# EAGLE library part XC3S400-FT256 (library xess)
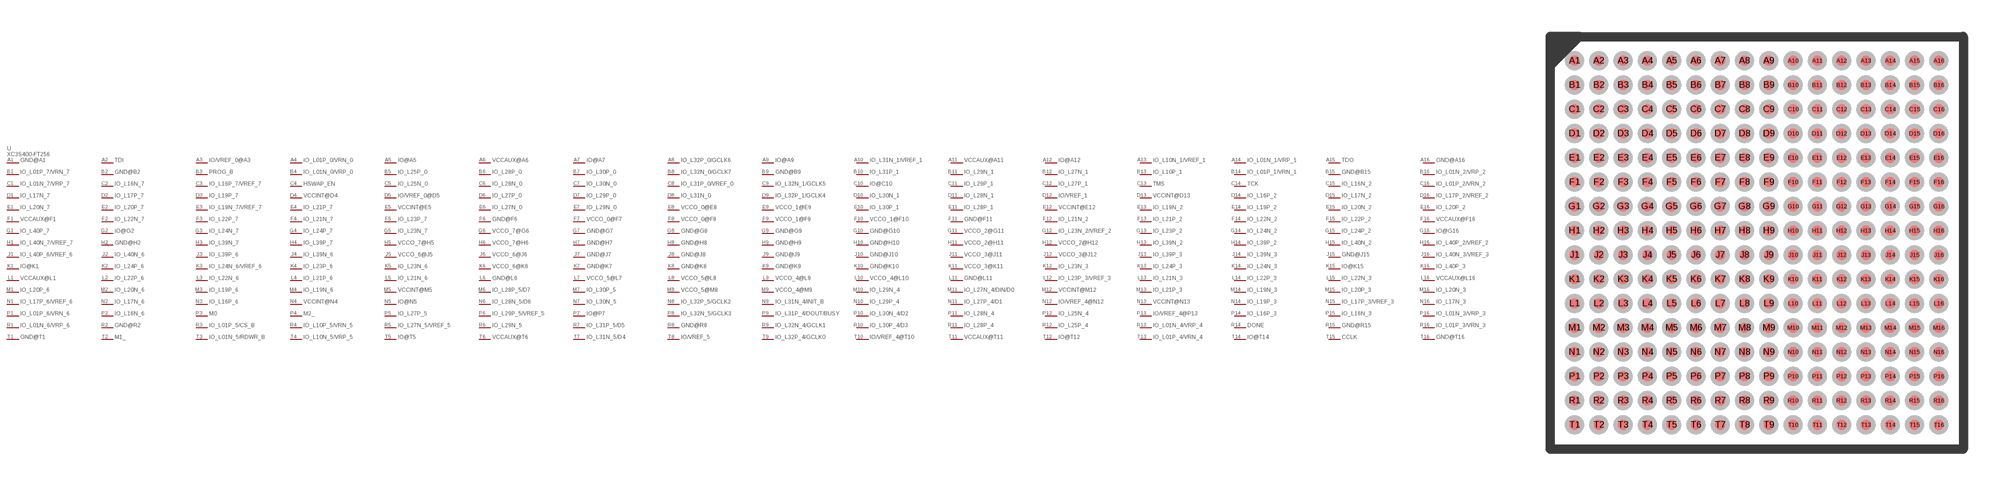
[diagram p102: symbol with the pads of XC3S400-FT256; footprint XC3S400-FT256]

Designator prefix U; gates PART_VALUE=PART_VALUE-XC3S400-FT256 GND@A1=P-XC3S400-FT256 TDI=P-XC3S400-FT256 IO/VREF_0@A3=P-XC3S400-FT256 IO_L01P_0/VRN_0=P-XC3S400-FT256 IO@A5=P-XC3S400-FT256 VCCAUX@A6=P-XC3S400-FT256 IO@A7=P-XC3S400-FT256 IO_L32P_0/GCLK6=P-XC3S400-FT256 IO@A9=P-XC3S400-FT256 IO_L31N_1/VREF_1=P-XC3S400-FT256 VCCAUX@A11=P-XC3S400-FT256 IO@A12=P-XC3S400-FT256 IO_L10N_1/VREF_1=P-XC3S400-FT256 IO_L01N_1/VRP_1=P-XC3S400-FT256 TDO=P-XC3S400-FT256 GND@A16=P-XC3S400-FT256 IO_L01P_7/VRN_7=P-XC3S400-FT256 GND@B2=P-XC3S400-FT256 PROG_B=P-XC3S400-FT256 IO_L01N_0/VRP_0=P-XC3S400-FT256 IO_L25P_0=P-XC3S400-FT256 IO_L28P_0=P-XC3S400-FT256 IO_L30P_0=P-XC3S400-FT256 IO_L32N_0/GCLK7=P-XC3S400-FT256 GND@B9=P-XC3S400-FT256 IO_L31P_1=P-XC3S400-FT256 IO_L29N_1=P-XC3S400-FT256 IO_L27N_1=P-XC3S400-FT256 IO_L10P_1=P-XC3S400-FT256 IO_L01P_1/VRN_1=P-XC3S400-FT256 GND@B15=P-XC3S400-FT256 IO_L01N_2/VRP_2=P-XC3S400-FT256 IO_L01N_7/VRP_7=P-XC3S400-FT256 IO_L16N_7=P-XC3S400-FT256 IO_L16P_7/VREF_7=P-XC3S400-FT256 HSWAP_EN=P-XC3S400-FT256 IO_L25N_0=P-XC3S400-FT256 IO_L28N_0=P-XC3S400-FT256 IO_L30N_0=P-XC3S400-FT256 IO_L31P_0/VREF_0=P-XC3S400-FT256 IO_L32N_1/GCLK5=P-XC3S400-FT256 IO@C10=P-XC3S400-FT256 IO_L29P_1=P-XC3S400-FT256 IO_L27P_1=P-XC3S400-FT256 TMS=P-XC3S400-FT256 TCK=P-XC3S400-FT256 IO_L16N_2=P-XC3S400-FT256 IO_L01P_2/VRN_2=P-XC3S400-FT256 IO_L17N_7=P-XC3S400-FT256 IO_L17P_7=P-XC3S400-FT256 IO_L19P_7=P-XC3S400-FT256 VCCINT@D4=P-XC3S400-FT256 IO/VREF_0@D5=P-XC3S400-FT256 IO_L27P_0=P-XC3S400-FT256 IO_L29P_0=P-XC3S400-FT256 IO_L31N_0=P-XC3S400-FT256 IO_L32P_1/GCLK4=P-XC3S400-FT256 IO_L30N_1=P-XC3S400-FT256 IO_L28N_1=P-XC3S400-FT256 IO/VREF_1=P-XC3S400-FT256 VCCINT@D13=P-XC3S400-FT256 IO_L16P_2=P-XC3S400-FT256 IO_L17N_2=P-XC3S400-FT256 IO_L17P_2/VREF_2=P-XC3S400-FT256 IO_L20N_7=P-XC3S400-FT256 IO_L20P_7=P-XC3S400-FT256 IO_L19N_7/VREF_7=P-XC3S400-FT256 IO_L21P_7=P-XC3S400-FT256 VCCINT@E5=P-XC3S400-FT256 IO_L27N_0=P-XC3S400-FT256 IO_L29N_0=P-XC3S400-FT256 VCCO_0@E8=P-XC3S400-FT256 VCCO_1@E9=P-XC3S400-FT256 IO_L30P_1=P-XC3S400-FT256 IO_L28P_1=P-XC3S400-FT256 VCCINT@E12=P-XC3S400-FT256 IO_L19N_2=P-XC3S400-FT256 IO_L19P_2=P-XC3S400-FT256 IO_L20N_2=P-XC3S400-FT256 IO_L20P_2=P-XC3S400-FT256 VCCAUX@F1=P-XC3S400-FT256 IO_L22N_7=P-XC3S400-FT256 IO_L22P_7=P-XC3S400-FT256 IO_L21N_7=P-XC3S400-FT256 IO_L23P_7=P-XC3S400-FT256 GND@F6=P-XC3S400-FT256 VCCO_0@F7=P-XC3S400-FT256 VCCO_0@F8=P-XC3S400-FT256 VCCO_1@F9=P-XC3S400-FT256 VCCO_1@F10=P-XC3S400-FT256 GND@F11=P-XC3S400-FT256 IO_L21N_2=P-XC3S400-FT256 IO_L21P_2=P-XC3S400-FT256 IO_L22N_2=P-XC3S400-FT256 IO_L22P_2=P-XC3S400-FT256 VCCAUX@F16=P-XC3S400-FT256 IO_L40P_7=P-XC3S400-FT256 IO@G2=P-XC3S400-FT256 IO_L24N_7=P-XC3S400-FT256 IO_L24P_7=P-XC3S400-FT256 IO_L23N_7=P-XC3S400-FT256 VCCO_7@G6=P-XC3S400-FT256 GND@G7=P-XC3S400-FT256 GND@G8=P-XC3S400-FT256 GND@G9=P-XC3S400-FT256 GND@G10=P-XC3S400-FT256 VCCO_2@G11=P-XC3S400-FT256 IO_L23N_2/VREF_2=P-XC3S400-FT256 IO_L23P_2=P-XC3S400-FT256 IO_L24N_2=P-XC3S400-FT256 IO_L24P_2=P-XC3S400-FT256 IO@G16=P-XC3S400-FT256 IO_L40N_7/VREF_7=P-XC3S400-FT256 GND@H2=P-XC3S400-FT256 IO_L39N_7=P-XC3S400-FT256 IO_L39P_7=P-XC3S400-FT256 VCCO_7@H5=P-XC3S400-FT256 VCCO_7@H6=P-XC3S400-FT256 GND@H7=P-XC3S400-FT256 GND@H8=P-XC3S400-FT256 GND@H9=P-XC3S400-FT256 GND@H10=P-XC3S400-FT256 VCCO_2@H11=P-XC3S400-FT256 VCCO_2@H12=P-XC3S400-FT256 IO_L39N_2=P-XC3S400-FT256 IO_L39P_2=P-XC3S400-FT256 IO_L40N_2=P-XC3S400-FT256 IO_L40P_2/VREF_2=P-XC3S400-FT256 IO_L40P_6/VREF_6=P-XC3S400-FT256 IO_L40N_6=P-XC3S400-FT256 IO_L39P_6=P-XC3S400-FT256 IO_L39N_6=P-XC3S400-FT256 VCCO_6@J5=P-XC3S400-FT256 VCCO_6@J6=P-XC3S400-FT256 GND@J7=P-XC3S400-FT256 GND@J8=P-XC3S400-FT256 GND@J9=P-XC3S400-FT256 GND@J10=P-XC3S400-FT256 VCCO_3@J11=P-XC3S400-FT256 VCCO_3@J12=P-XC3S400-FT256 IO_L39P_3=P-XC3S400-FT256 IO_L39N_3=P-XC3S400-FT256 GND@J15=P-XC3S400-FT256 IO_L40N_3/VREF_3=P-XC3S400-FT256 IO@K1=P-XC3S400-FT256 IO_L24P_6=P-XC3S400-FT256 IO_L24N_6/VREF_6=P-XC3S400-FT256 IO_L23P_6=P-XC3S400-FT256 IO_L23N_6=P-XC3S400-FT256 VCCO_6@K6=P-XC3S400-FT256 GND@K7=P-XC3S400-FT256 GND@K8=P-XC3S400-FT256 GND@K9=P-XC3S400-FT256 GND@K10=P-XC3S400-FT256 VCCO_3@K11=P-XC3S400-FT256 IO_L23N_3=P-XC3S400-FT256 IO_L24P_3=P-XC3S400-FT256 IO_L24N_3=P-XC3S400-FT256 IO@K15=P-XC3S400-FT256 IO_L40P_3=P-XC3S400-FT256 VCCAUX@L1=P-XC3S400-FT256 IO_L22P_6=P-XC3S400-FT256 IO_L22N_6=P-XC3S400-FT256 IO_L21P_6=P-XC3S400-FT256 IO_L21N_6=P-XC3S400-FT256 GND@L6=P-XC3S400-FT256 VCCO_5@L7=P-XC3S400-FT256 VCCO_5@L8=P-XC3S400-FT256 VCCO_4@L9=P-XC3S400-FT256 VCCO_4@L10=P-XC3S400-FT256 GND@L11=P-XC3S400-FT256 IO_L23P_3/VREF_3=P-XC3S400-FT256 IO_L21N_3=P-XC3S400-FT256 IO_L22P_3=P-XC3S400-FT256 IO_L22N_3=P-XC3S400-FT256 VCCAUX@L16=P-XC3S400-FT256 IO_L20P_6=P-XC3S400-FT256 IO_L20N_6=P-XC3S400-FT256 IO_L19P_6=P-XC3S400-FT256 IO_L19N_6=P-XC3S400-FT256 VCCINT@M5=P-XC3S400-FT256 IO_L28P_5/D7=P-XC3S400-FT256 IO_L30P_5=P-XC3S400-FT256 VCCO_5@M8=P-XC3S400-FT256 VCCO_4@M9=P-XC3S400-FT256 IO_L29N_4=P-XC3S400-FT256 IO_L27N_4/DIN/D0=P-XC3S400-FT256 VCCINT@M12=P-XC3S400-FT256 IO_L21P_3=P-XC3S400-FT256 IO_L19N_3=P-XC3S400-FT256 IO_L20P_3=P-XC3S400-FT256 IO_L20N_3=P-XC3S400-FT256 IO_L17P_6/VREF_6=P-XC3S400-FT256 IO_L17N_6=P-XC3S400-FT256 IO_L16P_6=P-XC3S400-FT256 VCCINT@N4=P-XC3S400-FT256 IO@N5=P-XC3S400-FT256 IO_L28N_5/D6=P-XC3S400-FT256 IO_L30N_5=P-XC3S400-FT256 IO_L32P_5/GCLK2=P-XC3S400-FT256 IO_L31N_4/INIT_B=P-XC3S400-FT256 IO_L29P_4=P-XC3S400-FT256 IO_L27P_4/D1=P-XC3S400-FT256 IO/VREF_4@N12=P-XC3S400-FT256 VCCINT@N13=P-XC3S400-FT256 IO_L19P_3=P-XC3S400-FT256 IO_L17P_3/VREF_3=P-XC3S400-FT256 IO_L17N_3=P-XC3S400-FT256 IO_L01P_6/VRN_6=P-XC3S400-FT256 IO_L16N_6=P-XC3S400-FT256 M0=P-XC3S400-FT256 M2_=P-XC3S400-FT256 IO_L27P_5=P-XC3S400-FT256 IO_L29P_5/VREF_5=P-XC3S400-FT256 IO@P7=P-XC3S400-FT256 IO_L32N_5/GCLK3=P-XC3S400-FT256 IO_L31P_4/DOUT/BUSY=P-XC3S400-FT256 IO_L30N_4/D2=P-XC3S400-FT256 IO_L28N_4=P-XC3S400-FT256 IO_L25N_4=P-XC3S400-FT256 IO/VREF_4@P13=P-XC3S400-FT256 IO_L16P_3=P-XC3S400-FT256 IO_L16N_3=P-XC3S400-FT256 IO_L01N_3/VRP_3=P-XC3S400-FT256 IO_L01N_6/VRP_6=P-XC3S400-FT256 GND@R2=P-XC3S400-FT256 IO_L01P_5/CS_B=P-XC3S400-FT256 IO_L10P_5/VRN_5=P-XC3S400-FT256 IO_L27N_5/VREF_5=P-XC3S400-FT256 IO_L29N_5=P-XC3S400-FT256 IO_L31P_5/D5=P-XC3S400-FT256 GND@R8=P-XC3S400-FT256 IO_L32N_4/GCLK1=P-XC3S400-FT256 IO_L30P_4/D3=P-XC3S400-FT256 IO_L28P_4=P-XC3S400-FT256 IO_L25P_4=P-XC3S400-FT256 IO_L01N_4/VRP_4=P-XC3S400-FT256 DONE=P-XC3S400-FT256 GND@R15=P-XC3S400-FT256 IO_L01P_3/VRN_3=P-XC3S400-FT256 GND@T1=P-XC3S400-FT256 M1_=P-XC3S400-FT256 IO_L01N_5/RDWR_B=P-XC3S400-FT256 IO_L10N_5/VRP_5=P-XC3S400-FT256 IO@T5=P-XC3S400-FT256 VCCAUX@T6=P-XC3S400-FT256 IO_L31N_5/D4=P-XC3S400-FT256 IO/VREF_5=P-XC3S400-FT256 IO_L32P_4/GCLK0=P-XC3S400-FT256 IO/VREF_4@T10=P-XC3S400-FT256 VCCAUX@T11=P-XC3S400-FT256 IO@T12=P-XC3S400-FT256 IO_L01P_4/VRN_4=P-XC3S400-FT256 IO@T14=P-XC3S400-FT256 CCLK=P-XC3S400-FT256 GND@T16=P-XC3S400-FT256

## XC3S400-FT256  [XC3S400-FT256]
A1  GND@A1:P$1
A2  TDI:P$1
A3  IO/VREF_0@A3:P$1
A4  IO_L01P_0/VRN_0:P$1
A5  IO@A5:P$1
A6  VCCAUX@A6:P$1
A7  IO@A7:P$1
A8  IO_L32P_0/GCLK6:P$1
A9  IO@A9:P$1
A10  IO_L31N_1/VREF_1:P$1
A11  VCCAUX@A11:P$1
A12  IO@A12:P$1
A13  IO_L10N_1/VREF_1:P$1
A14  IO_L01N_1/VRP_1:P$1
A15  TDO:P$1
A16  GND@A16:P$1
B1  IO_L01P_7/VRN_7:P$1
B2  GND@B2:P$1
B3  PROG_B:P$1
B4  IO_L01N_0/VRP_0:P$1
B5  IO_L25P_0:P$1
B6  IO_L28P_0:P$1
B7  IO_L30P_0:P$1
B8  IO_L32N_0/GCLK7:P$1
B9  GND@B9:P$1
B10  IO_L31P_1:P$1
B11  IO_L29N_1:P$1
B12  IO_L27N_1:P$1
B13  IO_L10P_1:P$1
B14  IO_L01P_1/VRN_1:P$1
B15  GND@B15:P$1
B16  IO_L01N_2/VRP_2:P$1
C1  IO_L01N_7/VRP_7:P$1
C2  IO_L16N_7:P$1
C3  IO_L16P_7/VREF_7:P$1
C4  HSWAP_EN:P$1
C5  IO_L25N_0:P$1
C6  IO_L28N_0:P$1
C7  IO_L30N_0:P$1
C8  IO_L31P_0/VREF_0:P$1
C9  IO_L32N_1/GCLK5:P$1
C10  IO@C10:P$1
C11  IO_L29P_1:P$1
C12  IO_L27P_1:P$1
C13  TMS:P$1
C14  TCK:P$1
C15  IO_L16N_2:P$1
C16  IO_L01P_2/VRN_2:P$1
D1  IO_L17N_7:P$1
D2  IO_L17P_7:P$1
D3  IO_L19P_7:P$1
D4  VCCINT@D4:P$1
D5  IO/VREF_0@D5:P$1
D6  IO_L27P_0:P$1
D7  IO_L29P_0:P$1
D8  IO_L31N_0:P$1
D9  IO_L32P_1/GCLK4:P$1
D10  IO_L30N_1:P$1
D11  IO_L28N_1:P$1
D12  IO/VREF_1:P$1
D13  VCCINT@D13:P$1
D14  IO_L16P_2:P$1
D15  IO_L17N_2:P$1
D16  IO_L17P_2/VREF_2:P$1
E1  IO_L20N_7:P$1
E2  IO_L20P_7:P$1
E3  IO_L19N_7/VREF_7:P$1
E4  IO_L21P_7:P$1
E5  VCCINT@E5:P$1
E6  IO_L27N_0:P$1
E7  IO_L29N_0:P$1
E8  VCCO_0@E8:P$1
E9  VCCO_1@E9:P$1
E10  IO_L30P_1:P$1
E11  IO_L28P_1:P$1
E12  VCCINT@E12:P$1
E13  IO_L19N_2:P$1
E14  IO_L19P_2:P$1
E15  IO_L20N_2:P$1
E16  IO_L20P_2:P$1
F1  VCCAUX@F1:P$1
F2  IO_L22N_7:P$1
F3  IO_L22P_7:P$1
F4  IO_L21N_7:P$1
F5  IO_L23P_7:P$1
F6  GND@F6:P$1
F7  VCCO_0@F7:P$1
F8  VCCO_0@F8:P$1
F9  VCCO_1@F9:P$1
F10  VCCO_1@F10:P$1
F11  GND@F11:P$1
F12  IO_L21N_2:P$1
F13  IO_L21P_2:P$1
F14  IO_L22N_2:P$1
F15  IO_L22P_2:P$1
F16  VCCAUX@F16:P$1
G1  IO_L40P_7:P$1
G2  IO@G2:P$1
G3  IO_L24N_7:P$1
G4  IO_L24P_7:P$1
G5  IO_L23N_7:P$1
G6  VCCO_7@G6:P$1
G7  GND@G7:P$1
G8  GND@G8:P$1
G9  GND@G9:P$1
G10  GND@G10:P$1
G11  VCCO_2@G11:P$1
G12  IO_L23N_2/VREF_2:P$1
G13  IO_L23P_2:P$1
G14  IO_L24N_2:P$1
G15  IO_L24P_2:P$1
G16  IO@G16:P$1
H1  IO_L40N_7/VREF_7:P$1
H2  GND@H2:P$1
H3  IO_L39N_7:P$1
H4  IO_L39P_7:P$1
H5  VCCO_7@H5:P$1
H6  VCCO_7@H6:P$1
H7  GND@H7:P$1
H8  GND@H8:P$1
H9  GND@H9:P$1
H10  GND@H10:P$1
H11  VCCO_2@H11:P$1
H12  VCCO_2@H12:P$1
H13  IO_L39N_2:P$1
H14  IO_L39P_2:P$1
H15  IO_L40N_2:P$1
H16  IO_L40P_2/VREF_2:P$1
J1  IO_L40P_6/VREF_6:P$1
J2  IO_L40N_6:P$1
J3  IO_L39P_6:P$1
J4  IO_L39N_6:P$1
J5  VCCO_6@J5:P$1
J6  VCCO_6@J6:P$1
J7  GND@J7:P$1
J8  GND@J8:P$1
J9  GND@J9:P$1
J10  GND@J10:P$1
J11  VCCO_3@J11:P$1
J12  VCCO_3@J12:P$1
J13  IO_L39P_3:P$1
J14  IO_L39N_3:P$1
J15  GND@J15:P$1
J16  IO_L40N_3/VREF_3:P$1
K1  IO@K1:P$1
K2  IO_L24P_6:P$1
K3  IO_L24N_6/VREF_6:P$1
K4  IO_L23P_6:P$1
K5  IO_L23N_6:P$1
K6  VCCO_6@K6:P$1
K7  GND@K7:P$1
K8  GND@K8:P$1
K9  GND@K9:P$1
K10  GND@K10:P$1
K11  VCCO_3@K11:P$1
K12  IO_L23N_3:P$1
K13  IO_L24P_3:P$1
K14  IO_L24N_3:P$1
K15  IO@K15:P$1
K16  IO_L40P_3:P$1
L1  VCCAUX@L1:P$1
L2  IO_L22P_6:P$1
L3  IO_L22N_6:P$1
L4  IO_L21P_6:P$1
L5  IO_L21N_6:P$1
L6  GND@L6:P$1
L7  VCCO_5@L7:P$1
L8  VCCO_5@L8:P$1
L9  VCCO_4@L9:P$1
L10  VCCO_4@L10:P$1
L11  GND@L11:P$1
L12  IO_L23P_3/VREF_3:P$1
L13  IO_L21N_3:P$1
L14  IO_L22P_3:P$1
L15  IO_L22N_3:P$1
L16  VCCAUX@L16:P$1
M1  IO_L20P_6:P$1
M2  IO_L20N_6:P$1
M3  IO_L19P_6:P$1
M4  IO_L19N_6:P$1
M5  VCCINT@M5:P$1
M6  IO_L28P_5/D7:P$1
M7  IO_L30P_5:P$1
M8  VCCO_5@M8:P$1
M9  VCCO_4@M9:P$1
M10  IO_L29N_4:P$1
M11  IO_L27N_4/DIN/D0:P$1
M12  VCCINT@M12:P$1
M13  IO_L21P_3:P$1
M14  IO_L19N_3:P$1
M15  IO_L20P_3:P$1
M16  IO_L20N_3:P$1
N1  IO_L17P_6/VREF_6:P$1
N2  IO_L17N_6:P$1
N3  IO_L16P_6:P$1
N4  VCCINT@N4:P$1
N5  IO@N5:P$1
N6  IO_L28N_5/D6:P$1
N7  IO_L30N_5:P$1
N8  IO_L32P_5/GCLK2:P$1
N9  IO_L31N_4/INIT_B:P$1
N10  IO_L29P_4:P$1
N11  IO_L27P_4/D1:P$1
N12  IO/VREF_4@N12:P$1
N13  VCCINT@N13:P$1
N14  IO_L19P_3:P$1
N15  IO_L17P_3/VREF_3:P$1
N16  IO_L17N_3:P$1
P1  IO_L01P_6/VRN_6:P$1
P2  IO_L16N_6:P$1
P3  M0:P$1
P4  M2_:P$1
P5  IO_L27P_5:P$1
P6  IO_L29P_5/VREF_5:P$1
P7  IO@P7:P$1
P8  IO_L32N_5/GCLK3:P$1
P9  IO_L31P_4/DOUT/BUSY:P$1
P10  IO_L30N_4/D2:P$1
P11  IO_L28N_4:P$1
P12  IO_L25N_4:P$1
P13  IO/VREF_4@P13:P$1
P14  IO_L16P_3:P$1
P15  IO_L16N_3:P$1
P16  IO_L01N_3/VRP_3:P$1
R1  IO_L01N_6/VRP_6:P$1
R2  GND@R2:P$1
R3  IO_L01P_5/CS_B:P$1
R4  IO_L10P_5/VRN_5:P$1
R5  IO_L27N_5/VREF_5:P$1
R6  IO_L29N_5:P$1
R7  IO_L31P_5/D5:P$1
R8  GND@R8:P$1
R9  IO_L32N_4/GCLK1:P$1
R10  IO_L30P_4/D3:P$1
R11  IO_L28P_4:P$1
R12  IO_L25P_4:P$1
R13  IO_L01N_4/VRP_4:P$1
R14  DONE:P$1
R15  GND@R15:P$1
R16  IO_L01P_3/VRN_3:P$1
T1  GND@T1:P$1
T2  M1_:P$1
T3  IO_L01N_5/RDWR_B:P$1
T4  IO_L10N_5/VRP_5:P$1
T5  IO@T5:P$1
T6  VCCAUX@T6:P$1
T7  IO_L31N_5/D4:P$1
T8  IO/VREF_5:P$1
T9  IO_L32P_4/GCLK0:P$1
T10  IO/VREF_4@T10:P$1
T11  VCCAUX@T11:P$1
T12  IO@T12:P$1
T13  IO_L01P_4/VRN_4:P$1
T14  IO@T14:P$1
T15  CCLK:P$1
T16  GND@T16:P$1

## Footprint XC3S400-FT256 (pad centres in mm)
smd 0.4 x 0.4: A1 0,0; A2 1,0; A3 2,0; A4 3,0; A5 4,0; A6 5,0; A7 6,0; A8 7,0; A9 8,0; A10 9,0; A11 10,0; A12 11,0; A13 12,0; A14 13,0; A15 14,0; A16 15,0; B1 0,-1; B2 1,-1; B3 2,-1; B4 3,-1; B5 4,-1; B6 5,-1; B7 6,-1; B8 7,-1; B9 8,-1; B10 9,-1; B11 10,-1; B12 11,-1; B13 12,-1; B14 13,-1; B15 14,-1; B16 15,-1; C1 0,-2; C2 1,-2; C3 2,-2; C4 3,-2; C5 4,-2; C6 5,-2; C7 6,-2; C8 7,-2; C9 8,-2; C10 9,-2; C11 10,-2; C12 11,-2; C13 12,-2; C14 13,-2; C15 14,-2; C16 15,-2; D1 0,-3; D2 1,-3; D3 2,-3; D4 3,-3; D5 4,-3; D6 5,-3; D7 6,-3; D8 7,-3; D9 8,-3; D10 9,-3; D11 10,-3; D12 11,-3; D13 12,-3; D14 13,-3; D15 14,-3; D16 15,-3; E1 0,-4; E2 1,-4; E3 2,-4; E4 3,-4; E5 4,-4; E6 5,-4; E7 6,-4; E8 7,-4; E9 8,-4; E10 9,-4; E11 10,-4; E12 11,-4; E13 12,-4; E14 13,-4; E15 14,-4; E16 15,-4; F1 0,-5; F2 1,-5; F3 2,-5; F4 3,-5; F5 4,-5; F6 5,-5; F7 6,-5; F8 7,-5; F9 8,-5; F10 9,-5; F11 10,-5; F12 11,-5; F13 12,-5; F14 13,-5; F15 14,-5; F16 15,-5; G1 0,-6; G2 1,-6; G3 2,-6; G4 3,-6; G5 4,-6; G6 5,-6; G7 6,-6; G8 7,-6; G9 8,-6; G10 9,-6; G11 10,-6; G12 11,-6; G13 12,-6; G14 13,-6; G15 14,-6; G16 15,-6; H1 0,-7; H2 1,-7; H3 2,-7; H4 3,-7; H5 4,-7; H6 5,-7; H7 6,-7; H8 7,-7; H9 8,-7; H10 9,-7; H11 10,-7; H12 11,-7; H13 12,-7; H14 13,-7; H15 14,-7; H16 15,-7; J1 0,-8; J2 1,-8; J3 2,-8; J4 3,-8; J5 4,-8; J6 5,-8; J7 6,-8; J8 7,-8; J9 8,-8; J10 9,-8; J11 10,-8; J12 11,-8; J13 12,-8; J14 13,-8; J15 14,-8; J16 15,-8; K1 0,-9; K2 1,-9; K3 2,-9; K4 3,-9; K5 4,-9; K6 5,-9; K7 6,-9; K8 7,-9; K9 8,-9; K10 9,-9; K11 10,-9; K12 11,-9; K13 12,-9; K14 13,-9; K15 14,-9; K16 15,-9; L1 0,-10; L2 1,-10; L3 2,-10; L4 3,-10; L5 4,-10; L6 5,-10; L7 6,-10; L8 7,-10; L9 8,-10; L10 9,-10; L11 10,-10; L12 11,-10; L13 12,-10; L14 13,-10; L15 14,-10; L16 15,-10; M1 0,-11; M2 1,-11; M3 2,-11; M4 3,-11; M5 4,-11; M6 5,-11; M7 6,-11; M8 7,-11; M9 8,-11; M10 9,-11; M11 10,-11; M12 11,-11; M13 12,-11; M14 13,-11; M15 14,-11; M16 15,-11; N1 0,-12; N2 1,-12; N3 2,-12; N4 3,-12; N5 4,-12; N6 5,-12; N7 6,-12; N8 7,-12; N9 8,-12; N10 9,-12; N11 10,-12; N12 11,-12; N13 12,-12; N14 13,-12; N15 14,-12; N16 15,-12; P1 0,-13; P2 1,-13; P3 2,-13; P4 3,-13; P5 4,-13; P6 5,-13; P7 6,-13; P8 7,-13; P9 8,-13; P10 9,-13; P11 10,-13; P12 11,-13; P13 12,-13; P14 13,-13; P15 14,-13; P16 15,-13; R1 0,-14; R2 1,-14; R3 2,-14; R4 3,-14; R5 4,-14; R6 5,-14; R7 6,-14; R8 7,-14; R9 8,-14; R10 9,-14; R11 10,-14; R12 11,-14; R13 12,-14; R14 13,-14; R15 14,-14; R16 15,-14; T1 0,-15; T2 1,-15; T3 2,-15; T4 3,-15; T5 4,-15; T6 5,-15; T7 6,-15; T8 7,-15; T9 8,-15; T10 9,-15; T11 10,-15; T12 11,-15; T13 12,-15; T14 13,-15; T15 14,-15; T16 15,-15